# EAGLE library part ADXL355_MINI (library analog_2020)
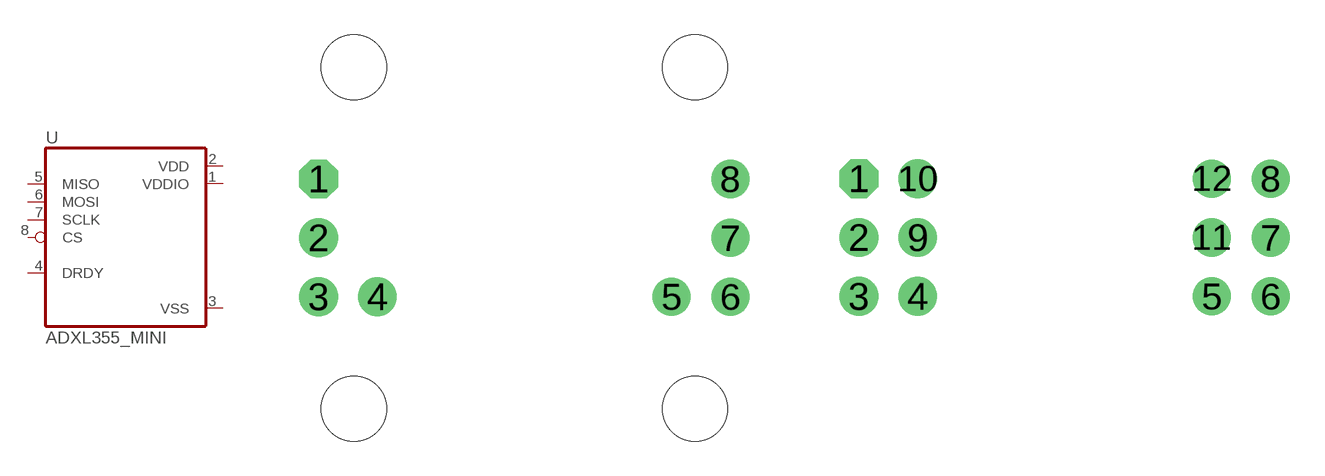
[diagram p1: symbol with the pads of ADXL355_EVAL_MINI; footprints ADXL355_EVAL_MINI, ADXL355_EVAL_3]

Designator prefix -

## ADXL355_MINI  [ADXL355_EVAL_MINI]
1  VDDIO  out
2  VDD  out
3  VSS  out
4  DRDY  out
5  MISO  out
6  MOSI  out
7  SCLK  out
8  CS  out

## ADXL355_MINI3  [ADXL355_EVAL_3]
Pads as for ADXL355_EVAL_MINI

## Footprint ADXL355_EVAL_MINI (pad centres in mm)
drill 1.1 pad 1.676 octagon: 1 -8.89,2.54
drill 1.1 pad 1.676 round: 2 -8.89,0; 3 -8.89,-2.54; 4 -6.35,-2.54
drill 1.1 round: 5 6.35,-2.54; 6 8.89,-2.54; 7 8.89,0; 8 8.89,2.54
hole 2.8 at -7.366,-7.366
hole 2.8 at -7.366,7.366
hole 2.8 at 7.366,7.366
hole 2.8 at 7.366,-7.366

## Footprint ADXL355_EVAL_3 (pad centres in mm)
drill 1.1 pad 1.676 octagon: 1 -8.89,2.54
drill 1.1 pad 1.676 round: 2 -8.89,0; 3 -8.89,-2.54; 4 -6.35,-2.54; 9 -6.35,0; 10 -6.35,2.54
drill 1.1 round: 5 6.35,-2.54; 6 8.89,-2.54; 7 8.89,0; 8 8.89,2.54; 11 6.35,0; 12 6.35,2.54